# Altium integrated library LP5907QMFX-3.3Q1.IntLib: 1 symbol
Pins are listed as number, name and electrical type; pins without a type are passive.

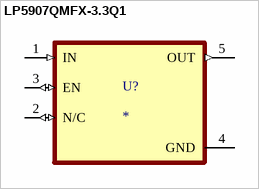
[diagram p0: symbol LP5907QMFX-3.3Q1]

## LP5907QMFX-3.3Q1
designator U?
Automotive 250-mA, low-noise, high-PSRR, low-IQ, ultra-low-dropout voltage regulator with low-IQ 5-SOT-23 -40 to 125; MF: Texas Instruments; MP: LP5907QMFX-3.3Q1; Purchase-URL: https://pricing.snapeda.com/search/part/LP5907QMFX-3.3Q1/?ref=eda; Availability: Good; SnapEDA_Link: https://www.snapeda.com/parts/LP5907QMFX-3.3Q1/Texas%20Instruments/view-part/559786/?ref=snap; Price: None; Package: SOT-23-5 Texas Instruments; Check_prices: https://www.snapeda.com/parts/LP5907QMFX-3.3Q1/Texas%20Instruments/view-part/559786/?ref=eda; Value: *
footprint SOT95P280X145-5N
pins: 1 IN (in), 2 N/C (io), 3 EN (io), 4 GND (power), 5 OUT (out)